# EAGLE library part TMUX1309DYYR (library Fancy_InternetRadio)
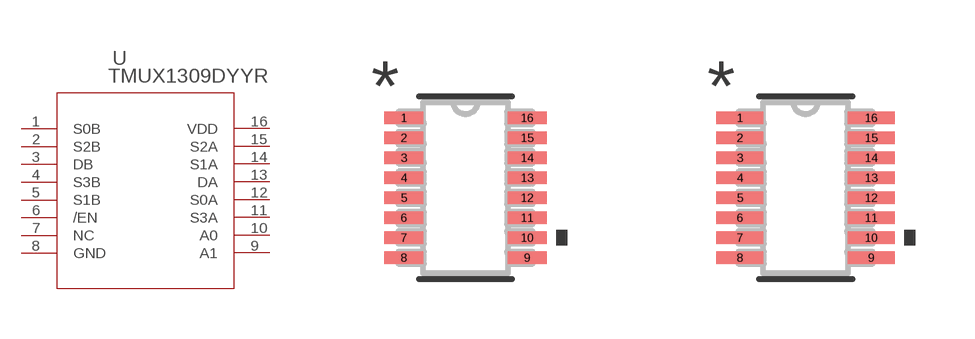
[diagram p4: symbol with the pads of SOIC_309DYYR_TEX; footprints SOIC_309DYYR_TEX, SOIC_309DYYR_TEX-M]

Designator prefix U

## TMUX1309DYYR (BUILT_BY: EMA_Matt; COPYRIGHT: Copyright (C) 2018 Accelerated Designs. All rights reserved; DATASHEET: https://www.ti.com/lit/ds/symlink/tmux1309.pdf?ts=1598032150860&ref_url=https%253A%252F%252Fwww.ti.com%252Fsitesearch%252Fdocs%252Funiversalsearch.tsp%253FsearchTerm%253DTMUX1309DYYR; MANUFACTURER_PART_NUMBER: TMUX1309DYYR; SOURCELIBRARY: TI_2020-08-21; VENDOR: Texas Instruments)  [SOIC_309DYYR_TEX]
1  S0B
2  S2B
3  DB  pas
4  S3B
5  S1B
6  /EN  pas
7  NC  nc
8  GND  pas
9  A1
10  A0
11  S3A
12  S0A
13  DA  pas
14  S1A
15  S2A
16  VDD  pwr

## TMUX1309DYYRSOIC_309DYYR_TEX-M (BUILT_BY: EMA_Matt; COPYRIGHT: Copyright (C) 2018 Accelerated Designs. All rights reserved; DATASHEET: https://www.ti.com/lit/ds/symlink/tmux1309.pdf?ts=1598032150860&ref_url=https%253A%252F%252Fwww.ti.com%252Fsitesearch%252Fdocs%252Funiversalsearch.tsp%253FsearchTerm%253DTMUX1309DYYR; MANUFACTURER_PART_NUMBER: TMUX1309DYYR; SOURCELIBRARY: TI_2020-08-21; VENDOR: Texas Instruments)  [SOIC_309DYYR_TEX-M]
Pads as for SOIC_309DYYR_TEX

## TMUX1309DYYRSOIC_309DYYR_TEX-L (BUILT_BY: EMA_Matt; COPYRIGHT: Copyright (C) 2018 Accelerated Designs. All rights reserved; DATASHEET: https://www.ti.com/lit/ds/symlink/tmux1309.pdf?ts=1598032150860&ref_url=https%253A%252F%252Fwww.ti.com%252Fsitesearch%252Fdocs%252Funiversalsearch.tsp%253FsearchTerm%253DTMUX1309DYYR; MANUFACTURER_PART_NUMBER: TMUX1309DYYR; SOURCELIBRARY: TI_2020-08-21; VENDOR: Texas Instruments)  [SOIC_309DYYR_TEX-L]
Pads as for SOIC_309DYYR_TEX

## Footprint SOIC_309DYYR_TEX (pad centres in mm)
smd 0.972 x 0.305: 1 -1.54,1.75; 2 -1.54,1.25; 3 -1.54,0.75; 4 -1.54,0.25; 5 -1.54,-0.25; 6 -1.54,-0.75; 7 -1.54,-1.25; 8 -1.54,-1.75; 9 1.54,-1.75; 10 1.54,-1.25; 11 1.54,-0.75; 12 1.54,-0.25; 13 1.54,0.25; 14 1.54,0.75; 15 1.54,1.25; 16 1.54,1.75

## Footprint SOIC_309DYYR_TEX-M (pad centres in mm)
smd 1.172 x 0.305: 1 -1.64,1.75; 2 -1.64,1.25; 3 -1.64,0.75; 4 -1.64,0.25; 5 -1.64,-0.25; 6 -1.64,-0.75; 7 -1.64,-1.25; 8 -1.64,-1.75; 9 1.64,-1.75; 10 1.64,-1.25; 11 1.64,-0.75; 12 1.64,-0.25; 13 1.64,0.25; 14 1.64,0.75; 15 1.64,1.25; 16 1.64,1.75

## Footprint SOIC_309DYYR_TEX-L (pad centres in mm)
smd 0.772 x 0.255: 1 -1.44,1.75; 2 -1.44,1.25; 3 -1.44,0.75; 4 -1.44,0.25; 5 -1.44,-0.25; 6 -1.44,-0.75; 7 -1.44,-1.25; 8 -1.44,-1.75; 9 1.44,-1.75; 10 1.44,-1.25; 11 1.44,-0.75; 12 1.44,-0.25; 13 1.44,0.25; 14 1.44,0.75; 15 1.44,1.25; 16 1.44,1.75